# EAGLE library part SFG-20 (library sfg-20)
20-pin connector for keyboards
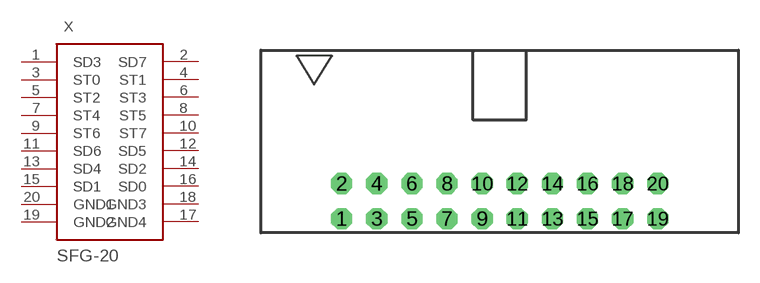
[diagram p0: symbol with the pads of SFG-20; footprint SFG-20]

Designator prefix X

## SFG-20  [SFG-20]
1  SD3
2  SD7
3  ST0
4  ST1
5  ST2
6  ST3
7  ST4
8  ST5
9  ST6
10  ST7
11  SD6
12  SD5
13  SD4
14  SD2
15  SD1
16  SD0
17  GND4
18  GND3
19  GND2
20  GND1

## Footprint SFG-20 (pad centres in mm)
CONNECTOR SFG 20 pin for keyboards angled
drill 1 octagon: 1 5.75,1; 2 5.75,3.5; 3 8.25,1; 4 8.25,3.5; 5 10.75,1; 6 10.75,3.5; 7 13.25,1; 8 13.25,3.5; 9 15.75,1; 10 15.75,3.5; 11 18.25,1; 12 18.25,3.5; 13 20.75,1; 14 20.75,3.5; 15 23.25,1; 16 23.25,3.5; 17 25.75,1; 18 25.75,3.5; 19 28.25,1; 20 28.25,3.5